# EAGLE library part HARWIN_M20-9980445 (library formula electric)
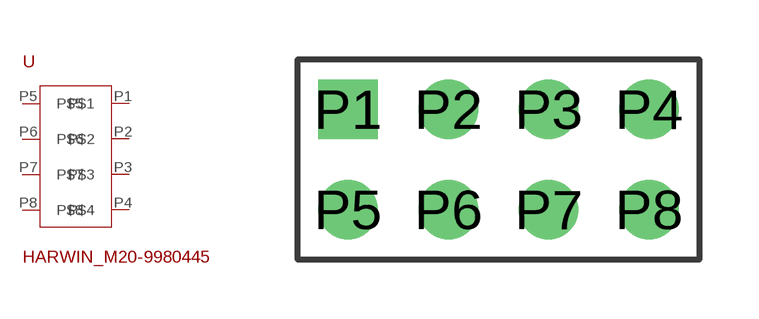
[diagram p15: symbol with the pads of HARWIN_M20-9980445; footprint HARWIN_M20-9980445]

Designator prefix -

## HARWIN_M20-9980445  [HARWIN_M20-9980445]
P1  P$1
P2  P$2
P3  P$3
P4  P$4
P5  P$5
P6  P$6
P7  P$7
P8  P$8

## Footprint HARWIN_M20-9980445 (pad centres in mm)
drill 1 square: P1 -3.81,1.27
drill 1: P2 -1.27,1.27; P3 1.27,1.27; P4 3.81,1.27; P5 -3.81,-1.27; P6 -1.27,-1.27; P7 1.27,-1.27; P8 3.81,-1.27